# Altium footprint library wireless_modules.PcbLib: 11 footprints
Each footprint in its own frame and in the unit in brackets; x right, y up, seen from the top. Pads: shape width x height; smd on the part's side, far side on the other; paste and mask are expansions set on the pad; w line width, h text height; cw(c..) or ccw(c..) is an arc to the next point about the centre after c.
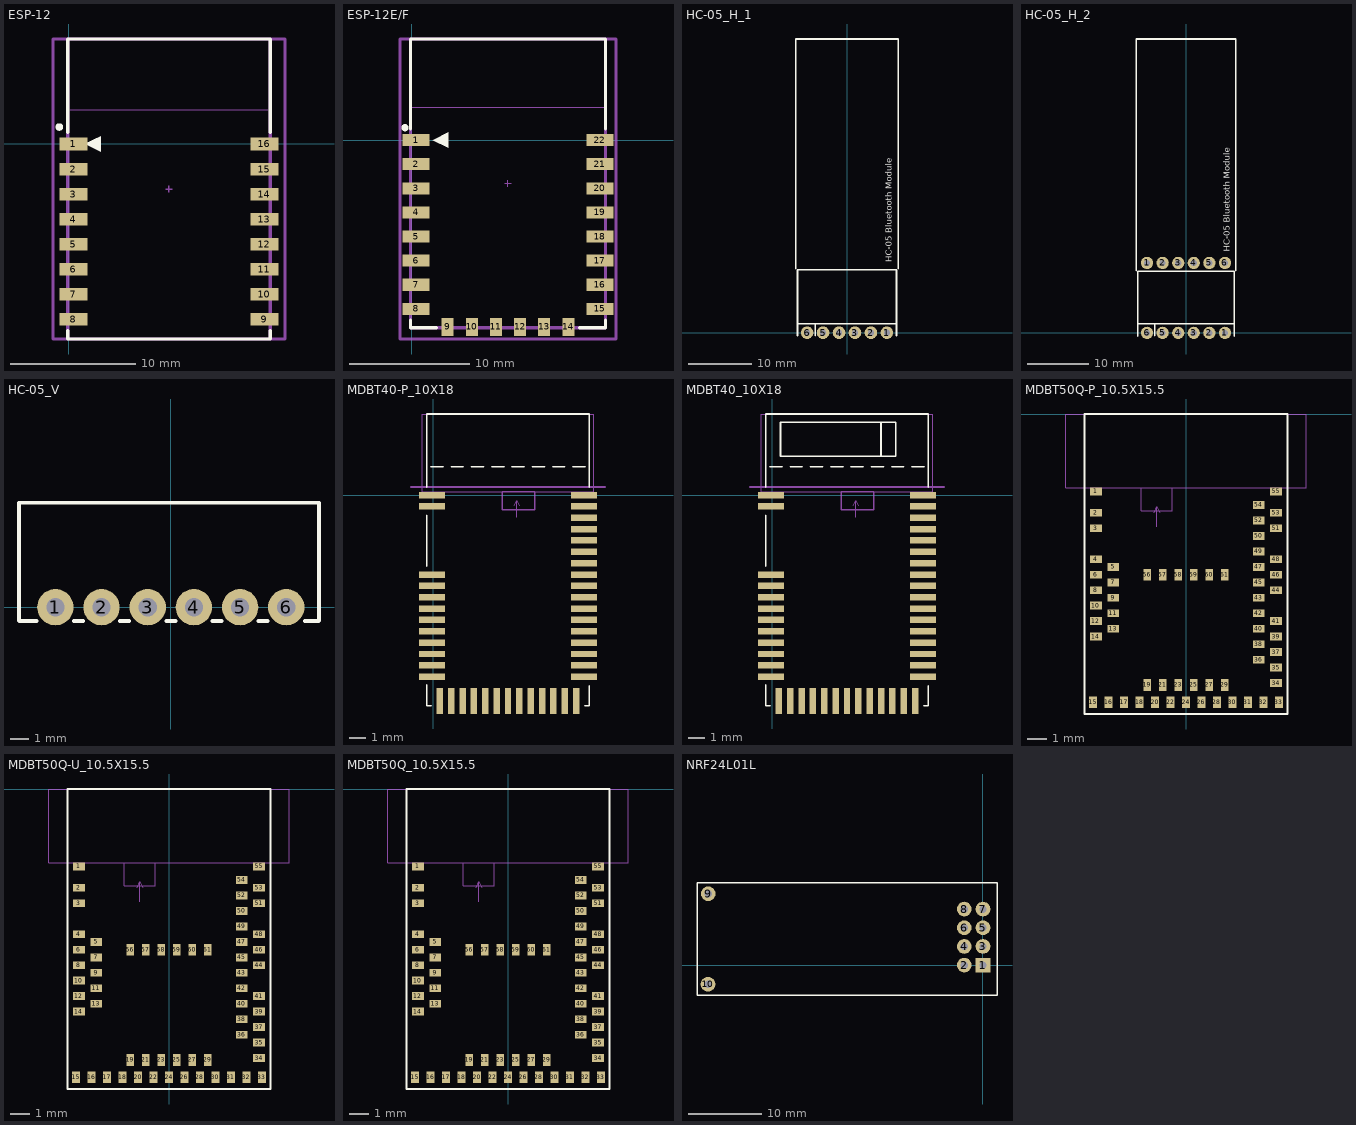
[diagram p0: the footprints below, top view; thin cyan lines are the x and y axes]

## ESP-12 [mm]
pads (16):
  rect 2.25x1 smd: 1(0.375,0) 2(0.375,-2) 3(0.375,-4) 4(0.375,-6) 5(0.375,-8) 6(0.375,-10) 7(0.375,-12) 8(0.375,-14) 9(15.625,-14) 10(15.625,-12) 11(15.625,-10) 12(15.625,-8) 13(15.625,-6) 14(15.625,-4) 15(15.625,-2) 16(15.625,0)
Top Overlay:
  circle w0.3: c-0.762,1.356 r0.15
  region: 1.27,0 2.54,-0.635 2.54,0.635
  lines w0.254: -0.084,-14.916 -0.084,-15.568 16.084,-15.568 16.084,-14.916 ; -0.084,0.916 -0.084,8.371 16.084,8.371 16.084,0.916
Mechanical 13:
  lines w0.051: -0.127,2.727 16.129,2.727 16.129,8.382 -0.127,8.382 -0.127,2.727
  lines w0.254: -0.084,-15.568 -0.084,8.371 16.084,8.371 16.084,-15.568 -0.084,-15.568
  text "ANTENNA AREA" at 0.127,7.874 h0.25
  text "CUTOUT POLYGON" at 0.127,7.366 h0.25
Mechanical 15:
  lines w0.1: 7.746,-3.598 8.254,-3.598 ; 8,-3.852 8,-3.344
  lines w0.254: -1.27,-15.568 17.272,-15.568 17.272,8.371 -1.27,8.371 -1.27,-15.568
3D body "AI-THINKER_ESP-12.STEP": height 2.5, standoff -0.3, extent 0,-15.6 16,8.4

## ESP-12E/F [mm]
pads (22):
  rect 2.25x1 smd: 1(0.375,0) 2(0.375,-2) 3(0.375,-4) 4(0.375,-6) 5(0.375,-8) 6(0.375,-10) 7(0.375,-12) 8(0.375,-14) 15(15.625,-14) 16(15.625,-12) 17(15.625,-10) 18(15.625,-8) 19(15.625,-6) 20(15.625,-4) 21(15.625,-2) 22(15.625,0)
  rect 1x1.5 smd: 9(3,-15.5) 10(5,-15.5) 11(7,-15.5) 12(9,-15.5) 13(11,-15.5) 14(13,-15.5)
Top Overlay:
  circle w0.3: c-0.55,1.025 r0.15
  region: 1.77,0 3.04,-0.635 3.04,0.635
  lines w0.254: -0.084,-14.916 -0.084,-15.568 2.068,-15.568 ; -0.084,0.916 -0.084,8.371 16.084,8.371 16.084,0.916 ; 13.932,-15.568 16.084,-15.568 16.084,-14.916
Mechanical 13:
  lines w0.051: -0.127,2.727 16.129,2.727 16.129,8.382 -0.127,8.382 -0.127,2.727
  lines w0.254: -0.084,-15.568 -0.084,8.371 16.084,8.371 16.084,-15.568 -0.084,-15.568
  text "ANTENNA AREA" at 0.127,7.874 h0.25
  text "CUTOUT POLYGON" at 0.127,7.366 h0.25
Mechanical 15:
  lines w0.1: 7.746,-3.598 8.254,-3.598 ; 8,-3.852 8,-3.344
  lines w0.254: -0.975,-16.5 16.975,-16.5 16.975,8.371 -0.975,8.371 -0.975,-16.5
3D body "User Library-ESP-12E.step": height 2.65, standoff -0.04, extent -0.005,-15.605 16.005,8.4

## HC-05_H_1 [mm] "HC-05 Bluetooth Module, Mounted Horizontally"
pads (6):
  round 2 hole 1: 1(6.35,0) 2(3.81,0) 3(1.27,0) 4(-1.27,0) 5(-3.81,0) 6(-6.35,0)
Top Overlay:
  lines w0.254: -7.874,-0.508 -7.874,10.033 7.874,10.033 7.874,-0.508 ; -7.874,1.454 7.874,1.454 ; -5.08,-0.5 -5.08,1.454
  lines w0.256: -8.128,10.16 -8.128,46.736 8.128,46.736 8.128,10.16
  text "HC-05 Bluetooth Module" at 7.112,11.176 h1
3D body "HC-SERIES.stp": height 6.41, standoff -5.02, extent -7.85,9.1 7.85,46.7
3D body "User Library-hc05.step": height 7, standoff 1.1, extent -8.052,3.81 8.048,46.41
3D body "Samtec-SSW-106-22-G-S-RA.step": height 2.46, standoff -2.5, extent -7.874,-0.254 7.874,9.982

## HC-05_H_2 [mm] "HC-05 Bluetooth Module, Mounted Horizontally"
pads (12):
  round 2 hole 1: 1(-6.35,11.4) 1(6.35,0) 2(-3.81,11.4) 2(3.81,0) 3(-1.27,11.4) 3(1.27,0) 4(-1.27,0) 4(1.27,11.4) 5(-3.81,0) 5(3.81,11.4) 6(-6.35,0) 6(6.35,11.4)
Top Overlay:
  lines w0.254: -7.874,-0.508 -7.874,10.033 7.874,10.033 7.874,-0.508 ; -7.874,1.454 7.874,1.454 ; -5.08,-0.5 -5.08,1.454
  lines w0.256: -8.128,10.16 -8.128,47.9 8.128,47.9 8.128,10.16
  text "HC-05 Bluetooth Module" at 7.1,13.2 h1
3D body "Samtec-SSW-106-22-G-S-RA.step": height 2.46, standoff -2.5, extent -7.874,-0.254 7.874,9.982
3D body "HC-SERIES.stp": height 6.41, standoff -5.02, extent -7.85,10 7.85,47.6

## HC-05_V [mm] "HC-05 Bluetooth Module, Mounted Vertically"
pads (6):
  round 2 hole 1: 1(-6.35,0) 2(-3.81,0) 3(-1.27,0) 4(1.27,0) 5(3.81,0) 6(6.35,0)
Top Overlay:
  lines w0.2: -7.366,-0.762 -8.338,-0.762 -8.35,-0.75 -8.35,5.75 8.15,5.75 8.15,-0.75 ; -5.334,-0.762 -4.826,-0.762 ; -2.794,-0.762 -2.286,-0.762 ; -0.254,-0.762 0.254,-0.762 ; 2.286,-0.762 2.794,-0.762 ; 4.826,-0.762 5.334,-0.762 ; 7.366,-0.762 8.138,-0.762
3D body "User Library-hc05.step": height 38, standoff -4.6, extent -8.15,-0.35 7.95,5.55

## MDBT40-P_10X18 [mm]
pads (42):
  rect 1.6x0.4 smd: 1(-0.1,0) 2(-0.1,-0.7) 3(-0.1,-4.9) 4(-0.1,-5.6) 5(-0.1,-6.3) 6(-0.1,-7) 7(-0.1,-7.7) 8(-0.1,-8.4) 9(-0.1,-9.1) 10(-0.1,-9.8) 11(-0.1,-10.5) 12(-0.1,-11.2) 26(9.3,-11.2) 27(9.3,-10.5) 28(9.3,-9.8) 29(9.3,-9.1) 30(9.3,-8.4) 31(9.3,-7.7) 32(9.3,-7) 33(9.3,-6.3) 34(9.3,-5.6) 35(9.3,-4.9) 36(9.3,-4.2) 37(9.3,-3.5) 38(9.3,-2.8) 39(9.3,-2.1) 40(9.3,-1.4) 41(9.3,-0.7) 42(9.3,0)
  rect 0.4x1.6 smd: 13(0.4,-12.7) 14(1.1,-12.7) 15(1.8,-12.7) 16(2.5,-12.7) 17(3.2,-12.7) 18(3.9,-12.7) 19(4.6,-12.7) 20(5.3,-12.7) 21(6,-12.7) 22(6.7,-12.7) 23(7.4,-12.7) 24(8.1,-12.7) 25(8.8,-12.7)
Top Overlay:
  lines w0.1: -0.4,-11.7 -0.4,-13 -0.15,-13 ; -0.4,-4.4 -0.4,-1.25 ; -0.4,0.5 -0.4,5 ; -0.15,1.75 0.6,1.75 ; 1.1,1.75 1.85,1.75 ; 2.35,1.75 3.1,1.75 ; 3.6,1.75 4.35,1.75 ; 4.85,1.75 5.6,1.75 ; 6.1,1.75 6.85,1.75 ; 7.35,1.75 8.1,1.75 ; 8.6,1.75 9.35,1.75 ; 9.35,-13 9.6,-13 9.6,-11.75 ; 9.6,0.5 9.6,5 ; -0.4,5 9.6,5 ; -0.4,5 4.6,5 9.6,5
Mechanical 1:
  lines w0.1: -1.4,0.5 10.6,0.5
Mechanical 2:
  lines w0.05: -0.7,0.2 -0.7,5 9.9,5 9.9,0.2 6.25,0.2 4.25,0.2 -0.7,0.2
  text "No ground pad" at 2.06,2.46 h0.45
Mechanical 3:
  lines w0.05: 5,-0.65 5.15,-0.35 ; 5.15,-1.375 5.15,-0.35 ; 5.3,-0.65 5.15,-0.35
  lines w0.1: 4.25,-0.9 4.25,0.2 6.25,0.2 6.25,-0.9 4.25,-0.9
  text "Toplayer no ground pad" at 1.5,-1.725 h0.3
3D body: height 2.7, standoff 1, extent 0.5,-12.2 8.8,1.5
3D body: height 1, standoff 0, extent -0.4,-13 9.6,5

## MDBT40_10X18 [mm]
pads (42):
  rect 1.6x0.4 smd: 1(-0.1,0) 2(-0.1,-0.7) 3(-0.1,-4.9) 4(-0.1,-5.6) 5(-0.1,-6.3) 6(-0.1,-7) 7(-0.1,-7.7) 8(-0.1,-8.4) 9(-0.1,-9.1) 10(-0.1,-9.8) 11(-0.1,-10.5) 12(-0.1,-11.2) 26(9.3,-11.2) 27(9.3,-10.5) 28(9.3,-9.8) 29(9.3,-9.1) 30(9.3,-8.4) 31(9.3,-7.7) 32(9.3,-7) 33(9.3,-6.3) 34(9.3,-5.6) 35(9.3,-4.9) 36(9.3,-4.2) 37(9.3,-3.5) 38(9.3,-2.8) 39(9.3,-2.1) 40(9.3,-1.4) 41(9.3,-0.7) 42(9.3,0)
  rect 0.4x1.6 smd: 13(0.4,-12.7) 14(1.1,-12.7) 15(1.8,-12.7) 16(2.5,-12.7) 17(3.2,-12.7) 18(3.9,-12.7) 19(4.6,-12.7) 20(5.3,-12.7) 21(6,-12.7) 22(6.7,-12.7) 23(7.4,-12.7) 24(8.1,-12.7) 25(8.8,-12.7)
Top Overlay:
  lines w0.1: -0.4,-11.7 -0.4,-13 -0.15,-13 ; -0.4,-4.4 -0.4,-1.25 ; -0.4,0.5 -0.4,5 ; -0.15,1.75 0.6,1.75 ; 1.1,1.75 1.85,1.75 ; 2.35,1.75 3.1,1.75 ; 3.6,1.75 4.35,1.75 ; 4.85,1.75 5.6,1.75 ; 6.1,1.75 6.85,1.75 ; 6.7,2.4 6.7,4.5 ; 7.35,1.75 8.1,1.75 ; 8.6,1.75 9.35,1.75 ; 9.35,-13 9.6,-13 9.6,-11.75 ; 9.6,0.5 9.6,5 ; -0.4,5 9.6,5 ; -0.4,5 4.6,5 9.6,5 ; 0.5,2.4 7.6,2.4 7.6,4.5 0.5,4.5 0.5,2.4
Mechanical 1:
  lines w0.1: -1.4,0.5 10.6,0.5
Mechanical 2:
  lines w0.05: -0.7,0.2 -0.7,5 9.9,5 9.9,0.2 6.25,0.2 4.25,0.2 -0.7,0.2
  text "No ground pad" at 2.06,2.46 h0.45
Mechanical 3:
  lines w0.05: 5,-0.65 5.15,-0.35 ; 5.15,-1.375 5.15,-0.35 ; 5.3,-0.65 5.15,-0.35
  lines w0.1: 4.25,-0.9 4.25,0.2 6.25,0.2 6.25,-0.9 4.25,-0.9
  text "Toplayer no ground pad" at 1.5,-1.725 h0.3
3D body: height 2.7, standoff 1, extent 0.5,-12.2 8.8,1.5
3D body: height 1, standoff 0, extent -0.4,-13 9.6,5
3D body: height 3.2, standoff 1, extent 0.542,2.426 7.642,4.526

## MDBT50Q-P_10.5X15.5 [mm]
pads (61):
  rect 0.6x0.4 smd mask+0.05: 1(-4.65,-4) 2(-4.65,-5.1) 3(-4.65,-5.9) 4(-4.65,-7.5) 5(-3.75,-7.9) 6(-4.65,-8.3) 7(-3.75,-8.7) 8(-4.65,-9.1) 9(-3.75,-9.5) 10(-4.65,-9.9) 11(-3.75,-10.3) 12(-4.65,-10.7) 13(-3.75,-11.1) 14(-4.65,-11.5) 34(4.65,-13.9) 35(4.65,-13.1) 36(3.75,-12.7) 37(4.65,-12.3) 38(3.75,-11.9) 39(4.65,-11.5) 40(3.75,-11.1) 41(4.65,-10.7) 42(3.75,-10.3) 43(3.75,-9.5) 44(4.65,-9.1) 45(3.75,-8.7) 46(4.65,-8.3) 47(3.75,-7.9) 48(4.65,-7.5) 49(3.75,-7.1) 50(3.75,-6.3) 51(4.65,-5.9) 52(3.75,-5.5) 53(4.65,-5.1) 54(3.75,-4.7) 55(4.65,-4)
  rect 0.4x0.6 smd mask+0.05: 15(-4.8,-14.9) 16(-4,-14.9) 17(-3.2,-14.9) 18(-2.4,-14.9) 19(-2,-14) 20(-1.6,-14.9) 21(-1.2,-14) 22(-0.8,-14.9) 23(-0.4,-14) 24(0,-14.9) 25(0.4,-14) 26(0.8,-14.9) 27(1.2,-14) 28(1.6,-14.9) 29(2,-14) 30(2.4,-14.9) 31(3.2,-14.9) 32(4,-14.9) 33(4.8,-14.9) 56(-2,-8.3) 57(-1.2,-8.3) 58(-0.4,-8.3) 59(0.4,-8.3) 60(1.2,-8.3) 61(2,-8.3)
Top Overlay:
  lines w0.1: -5.25,-15.5 5.25,-15.5 5.25,0 0,0 -5.25,0 -5.25,-15.5
Mechanical 2:
  lines w0.05: -6.2,-3.8 -6.2,0 6.2,0 6.2,-3.8 -6.2,-3.8
  text "No ground pad" at -2.801,-1.775 h0.45
Mechanical 3:
  lines w0.05: -1.65,-5.098 -1.5,-4.798 ; -1.5,-5.823 -1.5,-4.798 ; -1.35,-5.098 -1.5,-4.798 ; -2.3,-5 -2.3,-3.8 -0.7,-3.8 -0.7,-5 -2.3,-5
  text "Toplayer no ground pad" at -3.4,-6.2 h0.3
3D body "MDBT50Q-P 3D Drawing_20180620.stp": height 2, standoff 0, extent -5.25,-15.5 5.25,0

## MDBT50Q-U_10.5X15.5 [mm]
pads (61):
  rect 0.6x0.4 smd mask+0.05: 1(-4.65,-4) 2(-4.65,-5.1) 3(-4.65,-5.9) 4(-4.65,-7.5) 5(-3.75,-7.9) 6(-4.65,-8.3) 7(-3.75,-8.7) 8(-4.65,-9.1) 9(-3.75,-9.5) 10(-4.65,-9.9) 11(-3.75,-10.3) 12(-4.65,-10.7) 13(-3.75,-11.1) 14(-4.65,-11.5) 34(4.65,-13.9) 35(4.65,-13.1) 36(3.75,-12.7) 37(4.65,-12.3) 38(3.75,-11.9) 39(4.65,-11.5) 40(3.75,-11.1) 41(4.65,-10.7) 42(3.75,-10.3) 43(3.75,-9.5) 44(4.65,-9.1) 45(3.75,-8.7) 46(4.65,-8.3) 47(3.75,-7.9) 48(4.65,-7.5) 49(3.75,-7.1) 50(3.75,-6.3) 51(4.65,-5.9) 52(3.75,-5.5) 53(4.65,-5.1) 54(3.75,-4.7) 55(4.65,-4)
  rect 0.4x0.6 smd mask+0.05: 15(-4.8,-14.9) 16(-4,-14.9) 17(-3.2,-14.9) 18(-2.4,-14.9) 19(-2,-14) 20(-1.6,-14.9) 21(-1.2,-14) 22(-0.8,-14.9) 23(-0.4,-14) 24(0,-14.9) 25(0.4,-14) 26(0.8,-14.9) 27(1.2,-14) 28(1.6,-14.9) 29(2,-14) 30(2.4,-14.9) 31(3.2,-14.9) 32(4,-14.9) 33(4.8,-14.9) 56(-2,-8.3) 57(-1.2,-8.3) 58(-0.4,-8.3) 59(0.4,-8.3) 60(1.2,-8.3) 61(2,-8.3)
Top Overlay:
  lines w0.1: -5.25,-15.5 5.25,-15.5 5.25,0 0,0 -5.25,0 -5.25,-15.5
Mechanical 2:
  lines w0.05: -6.2,-3.8 -6.2,0 6.2,0 6.2,-3.8 -6.2,-3.8
  text "No ground pad" at -2.801,-1.775 h0.45
Mechanical 3:
  lines w0.05: -1.65,-5.098 -1.5,-4.798 ; -1.5,-5.823 -1.5,-4.798 ; -1.35,-5.098 -1.5,-4.798 ; -2.3,-5 -2.3,-3.8 -0.7,-3.8 -0.7,-5 -2.3,-5
  text "Toplayer no ground pad" at -3.4,-6.225 h0.3
3D body "MDBT50Q-U 3D Drawing_20180620.stp": height 2.05, standoff 0, extent -5.25,-15.5 5.25,0

## MDBT50Q_10.5X15.5 [mm]
pads (61):
  rect 0.6x0.4 smd mask+0.05: 1(-4.65,-4) 2(-4.65,-5.1) 3(-4.65,-5.9) 4(-4.65,-7.5) 5(-3.75,-7.9) 6(-4.65,-8.3) 7(-3.75,-8.7) 8(-4.65,-9.1) 9(-3.75,-9.5) 10(-4.65,-9.9) 11(-3.75,-10.3) 12(-4.65,-10.7) 13(-3.75,-11.1) 14(-4.65,-11.5) 34(4.65,-13.9) 35(4.65,-13.1) 36(3.75,-12.7) 37(4.65,-12.3) 38(3.75,-11.9) 39(4.65,-11.5) 40(3.75,-11.1) 41(4.65,-10.7) 42(3.75,-10.3) 43(3.75,-9.5) 44(4.65,-9.1) 45(3.75,-8.7) 46(4.65,-8.3) 47(3.75,-7.9) 48(4.65,-7.5) 49(3.75,-7.1) 50(3.75,-6.3) 51(4.65,-5.9) 52(3.75,-5.5) 53(4.65,-5.1) 54(3.75,-4.7) 55(4.65,-4)
  rect 0.4x0.6 smd mask+0.05: 15(-4.8,-14.9) 16(-4,-14.9) 17(-3.2,-14.9) 18(-2.4,-14.9) 19(-2,-14) 20(-1.6,-14.9) 21(-1.2,-14) 22(-0.8,-14.9) 23(-0.4,-14) 24(0,-14.9) 25(0.4,-14) 26(0.8,-14.9) 27(1.2,-14) 28(1.6,-14.9) 29(2,-14) 30(2.4,-14.9) 31(3.2,-14.9) 32(4,-14.9) 33(4.8,-14.9) 56(-2,-8.3) 57(-1.2,-8.3) 58(-0.4,-8.3) 59(0.4,-8.3) 60(1.2,-8.3) 61(2,-8.3)
Top Overlay:
  lines w0.1: -5.25,-15.5 5.25,-15.5 5.25,0 0,0 -5.25,0 -5.25,-15.5
Mechanical 2:
  lines w0.05: -6.2,-3.8 -6.2,0 6.2,0 6.2,-3.8 -6.2,-3.8
  text "No ground pad" at -2.801,-1.775 h0.45
Mechanical 3:
  lines w0.05: -1.65,-5.098 -1.5,-4.798 ; -1.5,-5.823 -1.5,-4.798 ; -1.35,-5.098 -1.5,-4.798 ; -2.3,-5 -2.3,-3.8 -0.7,-3.8 -0.7,-5 -2.3,-5
  text "Toplayer no ground pad" at -3.4,-6.225 h0.3
3D body "MDBT50Q 3D Drawing_20180620.stp": height 2.05, standoff 0, extent -5.25,-15.5 5.25,0

## NRF24L01L [mm]
pads (10):
  rect 2x2 hole 1: 1(0,0)
  round 2 hole 1: 2(-2.54,0) 3(0,2.54) 4(-2.54,2.54) 5(0,5.08) 6(-2.54,5.08) 7(0,7.62) 8(-2.54,7.62) 9(-37.375,9.7) 10(-37.4,-2.6)
Top Overlay:
  lines w0.2: -38.895,-4.1 1.905,-4.1 1.905,11.2 -38.895,11.2 -38.895,-4.1
3D body: height 4, standoff 3, extent -38.9,-4.1 1.9,11.2
3D body "User Library-142-0701-301.step": height 14.24, standoff 0.74, extent -46.775,-0.962 -31.14,6.962